# Altium integrated library jack_trs.IntLib: 8 symbols
Pins are listed as number, name and electrical type; pins without a type are passive.

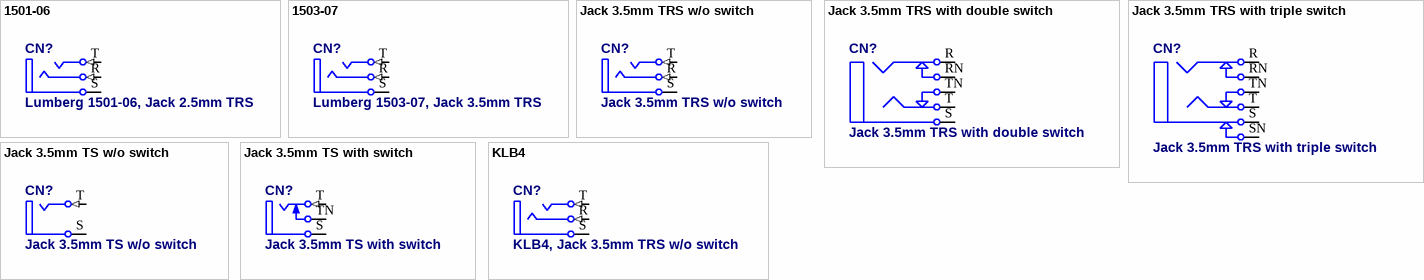
[diagram p0: symbols 1501-06 to KLB4]

## 1501-06
designator CN?, comment Lumberg 1501-06, Jack 2.5mm TRS
Lumberg 1501-06, 2.5mm JACK TRS; PackageDocument: 2003; PCB_Layout: Complies with manufacturer's recommendation.; DrillAndSlotSize: Corresponds to nominal value.; Published: 15-Jul-2004; LatestRevisionDate: 15-Jul-2004; LatestRevisionNote: Component Replaced.; DatasheetDocument: 2003; PackageReference: S1VS_SSS; Publisher: Altium Limited; ComponentLink1Description: Manufacturer Link; ComponentLink1URL: http://www.cliffuk.co.uk/
signal-integrity model JACK Socket
footprint Lumberg_1501_06 (Lumberg 1501 06 2.5mm jack socket)
pins: R (in) "Ring/Right Channel/(-)", S (power) "Sleeve (Ground)", T (in) "Tip/Left Channel/(+)"

## 1503-07
designator CN?, comment Lumberg 1503-07, Jack 3.5mm TRS
Lumberg 1503-08, Jack 3.5mm TRS; PackageDocument: 2003; PCB_Layout: Complies with manufacturer's recommendation.; DrillAndSlotSize: Corresponds to nominal value.; Published: 15-Jul-2004; LatestRevisionDate: 15-Jul-2004; LatestRevisionNote: Component Replaced.; DatasheetDocument: 2003; PackageReference: S1VS_SSS; Publisher: Altium Limited; ComponentLink1Description: Manufacturer Link; ComponentLink1URL: http://www.cliffuk.co.uk/
signal-integrity model JACK Socket
footprint LUMBERG_1503_07
pins: R (in) "Ring/Right Channel/(-)", S (power) "Sleeve (Ground)", T (in) "Tip/Left Channel/(+)"

## Jack 3.5mm TRS w/o switch
designator CN?
Stereo Jack Socket, 3.5mm (1/8") w/o switch; PackageDocument: 2003; PCB_Layout: Complies with manufacturer's recommendation.; DrillAndSlotSize: Corresponds to nominal value.; Published: 15-Jul-2004; LatestRevisionDate: 15-Jul-2004; LatestRevisionNote: Component Replaced.; DatasheetDocument: 2003; PackageReference: S1VS_SSS; Publisher: Altium Limited; ComponentLink1Description: Manufacturer Link; ComponentLink1URL: http://www.cliffuk.co.uk/
signal-integrity model JACK Socket
footprint FC68131 (Jack 3,5mm Connector, Stereo)
pins: R (in) "Ring/Right Channel/(-)", S (power) "Sleeve (Ground)", T (in) "Tip/Left Channel/(+)"

## Jack 3.5mm TRS with double switch
designator CN?
Stereo Jack Socket, 3.5mm (1/8") with switch; Published: 5-Jan-2004; LatestRevisionDate: 17-Dec-2003; LatestRevisionNote: PCB Footprint replaced.; DatasheetDocument: 07-Mar-2000; Publisher: Altium Limited; ComponentLink1Description: Manufacturer Link; ComponentLink1URL: http://domino.kycon.com/internet/Products.html
signal-integrity model Connector
footprint FC68133 (Jack 3,5mm Connector, Stereo with on/off switch)
pins: R, RN, S, T, TN

## Jack 3.5mm TRS with triple switch
designator CN?
3-Conductor Jack; Published: 27-Sep-2006
footprint FCR1295 (Jack 3,5mm Connector, Stereo with on/off switch)
pins: R, RN, S, SN, T, TN

## Jack 3.5mm TS w/o switch
designator CN?
Mono Jack Socket, 3.5mm (1/8") w/o switch; PackageDocument: 2003; PCB_Layout: Complies with manufacturer's recommendation.; DrillAndSlotSize: Corresponds to nominal value.; LatestRevisionDate: 15-Jul-2004; LatestRevisionNote: Component Replaced.; DatasheetDocument: 2003; PackageReference: S1VS_SNS; Publisher: Altium Limited; ComponentLink1Description: Manufacturer Link; ComponentLink1URL: http://www.cliffuk.co.uk/
signal-integrity model JACK Socket
pins: S (power) "Sleeve (Ground)", T (in) "Tip"

## Jack 3.5mm TS with switch
designator CN?
Mono Jack Socket, 3.5mm (1/8") wich switch; PackageDocument: 2003; PCB_Layout: Complies with manufacturer's recommendation.; DrillAndSlotSize: Corresponds to nominal value.; LatestRevisionDate: 15-Jul-2004; LatestRevisionNote: Component Replaced & renamed from "Phonejack".; DatasheetDocument: 2003; PackageReference: S1VS_SNB; Publisher: Altium Limited; ComponentLink1Description: Manufacturer Link; ComponentLink1URL: http://www.cliffuk.co.uk/
signal-integrity model JACK Socket
pins: S (power) "Sleeve (Ground)", T (in) "Tip", TN "Tip Normal (Break Contact)"

## KLB4
designator CN?, comment KLB4, Jack 3.5mm TRS w/o switch
Stereo Jack Socket, 3.5mm (1/8") w/o switch; PackageDocument: 2003; PCB_Layout: Complies with manufacturer's recommendation.; DrillAndSlotSize: Corresponds to nominal value.; Published: 15-Jul-2004; LatestRevisionDate: 15-Jul-2004; LatestRevisionNote: Component Replaced.; DatasheetDocument: 2003; PackageReference: S1VS_SSS; Publisher: Altium Limited; ComponentLink1Description: Manufacturer Link; ComponentLink1URL: http://www.cliffuk.co.uk/
signal-integrity model JACK Socket
footprint KLB4 (Lumberg KLB4 Jack TRS Connector)
footprint KLB4_slot_holes (Lumberg KLB4 Jack TRS Connector)
pins: R (in) "Ring/Right Channel/(-)", S (power) "Sleeve (Ground)", T (in) "Tip/Left Channel/(+)"